# Altium schematic symbol library FERRITE.Schlib: 1 symbol
Pins are listed as number, name and electrical type; pins without a type are passive.

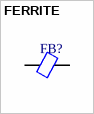
[diagram p0: symbol FERRITE]

## FERRITE
designator FB?
pins: 1, 2